# EAGLE library part INDUCTIVE_MEDIA_CONVERTER (library ecad)
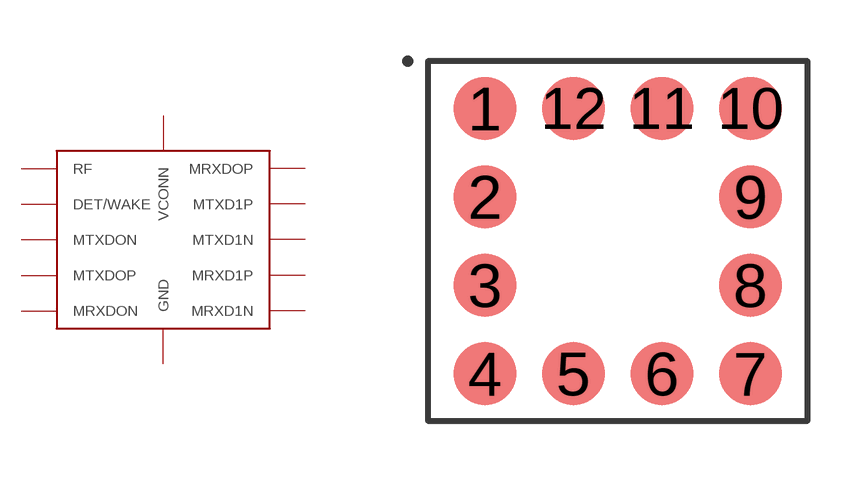
[diagram p0: symbol with the pads of INDUCTIVE_MEDIA_CONVERTER; footprint INDUCTIVE_MEDIA_CONVERTER]

Designator prefix U

## INDUCTIVE_MEDIA_CONVERTER  [INDUCTIVE_MEDIA_CONVERTER]
1  RF  pas
2  DET/WAKE  pas
3  VCONN  pas
4  MTXDON  pas
5  MTXDOP  pas
6  MRXDON  pas
7  MRXDOP  pas
8  MTXD1P  pas
9  MTXD1N  pas
10  MRXD1P  pas
11  MRXD1N  pas
12  GND  pas

## Footprint INDUCTIVE_MEDIA_CONVERTER (pad centres in mm)
smd 1.6 x 1.6: 1 -3.375,3.375; 2 -3.375,1.125; 3 -3.375,-1.125; 4 -3.375,-3.375; 5 -1.125,-3.375; 6 1.125,-3.375; 7 3.376,-3.375; 8 3.376,-1.125; 9 3.375,1.122; 10 3.376,3.375; 11 1.125,3.375; 12 -1.125,3.375